# Altium footprint library Connectors-USB - DVI - HDMI.PcbLib: 45 footprints (part 1 of 3)
Each footprint in its own frame and in the unit in brackets; x right, y up, seen from the top. Pads: shape width x height; smd on the part's side, far side on the other; paste and mask are expansions set on the pad; w line width, h text height; cw(c..) or ccw(c..) is an arc to the next point about the centre after c.
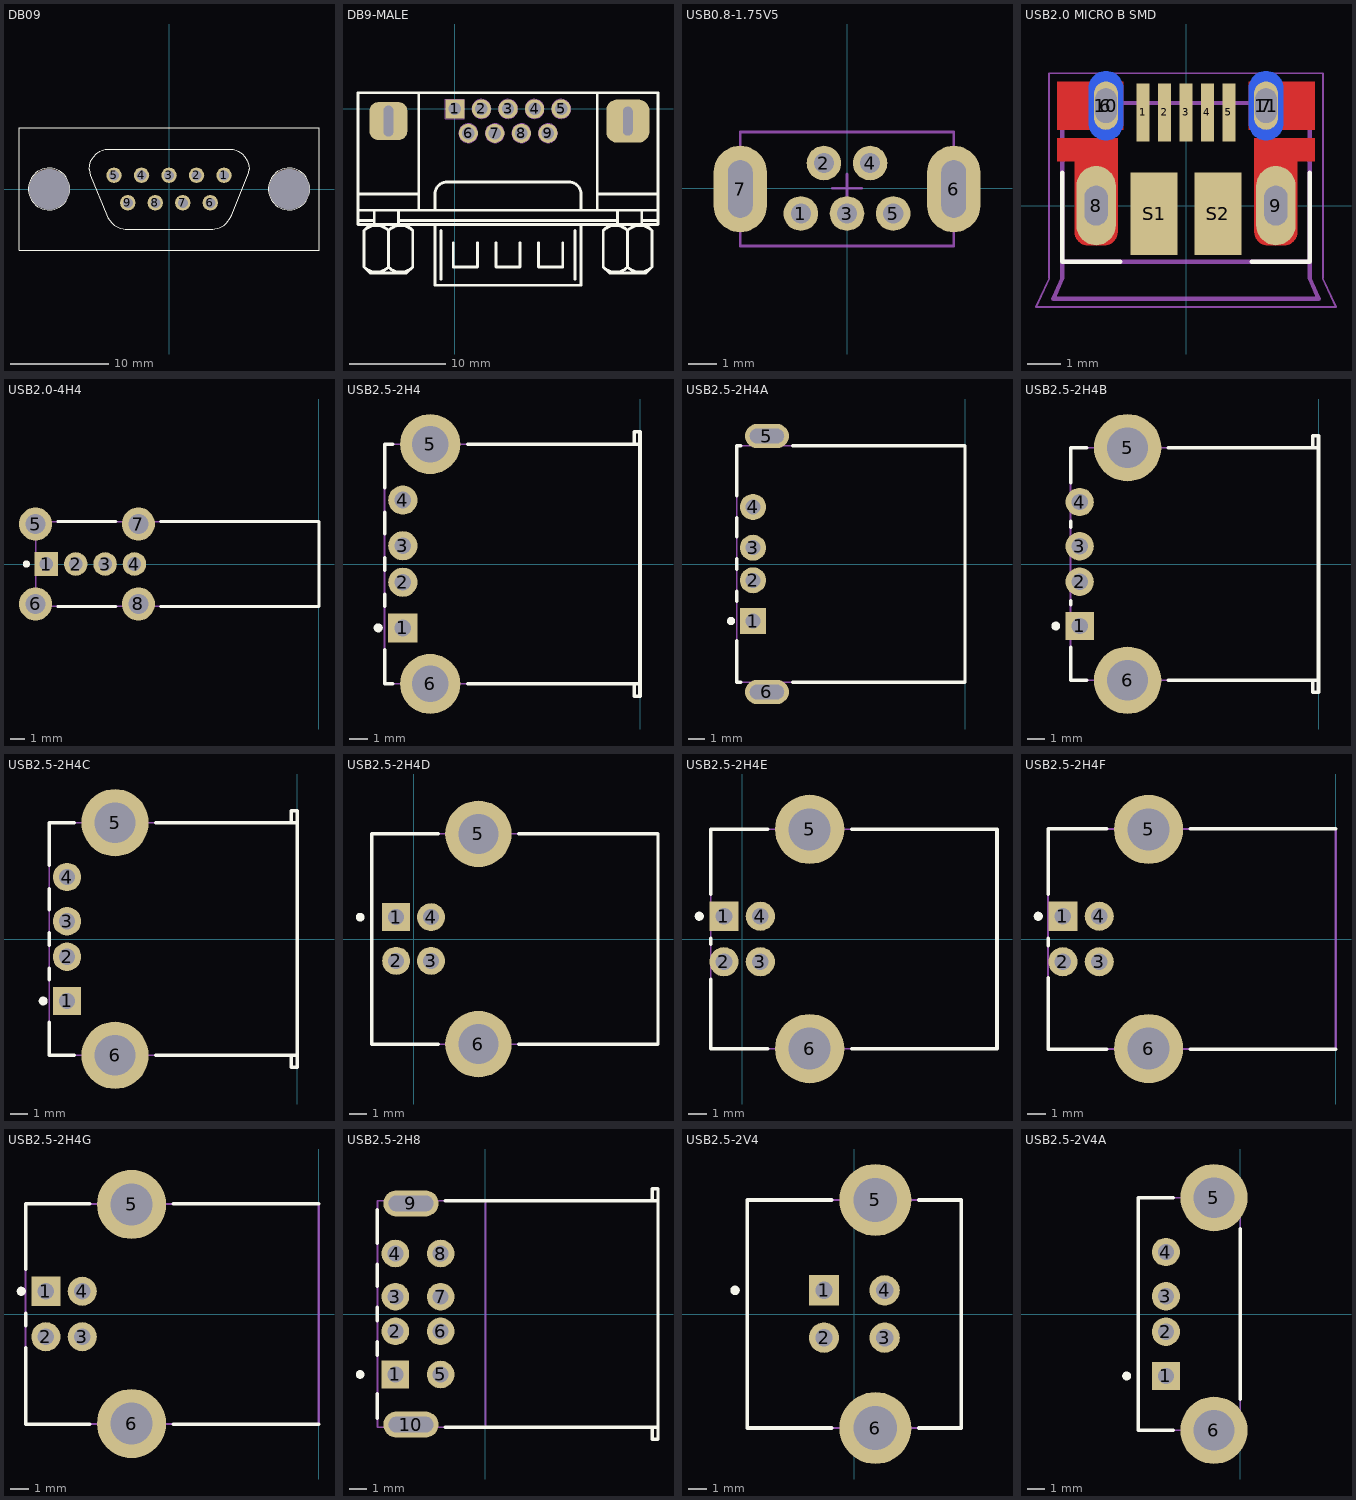
[diagram p0: the footprints below, top view; thin cyan lines are the x and y axes]

## DB09 [mil]
pads (11):
  round 62 hole 40: 1(220,55) 2(110,55) 3(0,55) 4(-110,55) 5(-220,55) 6(165,-55) 7(55,-55) 8(-55,-55) 9(-165,-55)
  round 162 hole 162 unplated: ""(-480,0) ""(480,0)
Top Overlay:
  circle w5: c480,0 r83
  circle w5: c-480,0 r83
  lines w5: -600,-245 -600,245 600,245 600,-245 -600,-245 ; -320,80 -318,96 -313,113 -302,130 -292,141 -277,151 -268,156 -256,159 -245,160 245,160 256,159 268,156 277,151 292,141 302,130 313,113 318,96 320,80 318,66 315,55 250,-105 245,-115 230,-135 220,-145 200,-155 194,-157 183,-159 175,-160 -175,-160 -183,-159 -194,-157 -200,-155 -220,-145 -230,-135 -245,-115 -250,-105 -315,55 -318,66 -320,80
Top HCB:
  text "3" at -17.5,100.25 h59.06
  text "6" at 147.63,-149.99 h59.06
  text "1" at 208.65,100.01 h59.06
  text "2" at 92.66,100.17 h59.06
  text "7" at 37.59,-150.08 h59.06
  text "8" at -72.53,-150 h59.06
  text "4" at -127.8,100.16 h59.06
  text "5" at -237.68,100.21 h59.06
  text "9" at -187.48,-149.88 h59.06

## DB9-MALE [mm]
height 12.55
pads (11):
  rect 2x2 hole 1.3 unplated: 1(0,0)
  round 2 hole 1.3 unplated: 2(2.773,0) 3(5.546,0) 4(8.318,0) 5(11.091,0) 6(1.397,-2.54) 7(4.17,-2.54) 8(6.943,-2.54) 9(9.715,-2.54)
  rrect50% 4x4 hole 1 slot 3.2 at 90 deg unplated: ""(-6.943,-1.27)
  rrect50% 4.5x4.5 hole 1 slot 3 at 90 deg unplated: ""(18.055,-1.27)
Top Overlay:
  lines w0.3: -10.118,-11.642 -8.424,-11.642 ; -10.118,-10.583 21.209,-10.583 ; -10.118,-8.89 -3.768,-8.89 ; -9.485,-16.512 ccw(c-8.213,-15.24) -6.94,-16.512 ; -9.485,-12.698 cw(c-8.213,-13.97) -6.94,-12.698 ; -8.848,-12.065 -9.483,-12.7 -9.483,-16.51 -8.848,-17.145 -5.038,-17.145 -4.403,-16.51 -4.403,-12.7 -5.038,-12.065 ; -8.424,-12.065 -8.424,-10.583 ; -6.945,-16.512 ccw(c-5.673,-15.24) -4.4,-16.512 ; -6.945,-12.698 cw(c-5.673,-13.97) -4.4,-12.698 ; -6.943,-16.51 -6.943,-12.7 ; -5.884,-12.065 -5.884,-10.583 ; -5.884,-11.642 16.976,-11.642 ; -5.334,1.693 15.723,1.693 ; -3.768,-10.583 -3.768,1.693 -10.118,1.693 -10.118,-12.065 21.209,-12.065 21.209,1.693 14.859,1.693 14.859,-10.583 ; -2.074,-12.065 -2.074,-18.415 13.166,-18.415 13.166,-12.065 ; -2.074,-10.583 -2.074,-8.89 cw(c-0.804,-8.89) -0.804,-7.62 11.896,-7.62 cw(c11.896,-8.89) 13.166,-8.89 13.166,-10.583 ; -1.439,-17.78 -1.439,-12.7 ; -0.169,-13.97 -0.169,-16.51 2.371,-16.51 2.371,-13.97 ; 4.276,-13.97 4.276,-16.51 6.816,-16.51 6.816,-13.97 ; 8.721,-13.97 8.721,-16.51 11.261,-16.51 11.261,-13.97 ; 12.531,-17.78 12.531,-12.7 ; 14.859,-8.89 21.209,-8.89 ; 15.492,-16.512 ccw(c16.764,-15.24) 18.036,-16.512 ; 15.492,-12.698 cw(c16.764,-13.97) 18.036,-12.698 ; 16.129,-12.065 15.494,-12.7 15.494,-16.51 16.129,-17.145 19.939,-17.145 20.574,-16.51 20.574,-12.7 19.939,-12.065 ; 16.976,-12.065 16.976,-10.583 ; 18.032,-16.512 ccw(c19.304,-15.24) 20.576,-16.512 ; 18.032,-12.698 cw(c19.304,-13.97) 20.576,-12.698 ; 18.034,-16.51 18.034,-12.7 ; 19.516,-12.065 19.516,-10.583 ; 19.516,-11.642 21.209,-11.642
Top HCB:
  circle w0.05: c6.943,-2.54 r1
  circle w0.05: c11.091,0 r1
  circle w0.05: c8.318,0 r1
  circle w0.05: c5.546,0 r1
  circle w0.05: c2.773,0 r1
  circle w0.05: c9.715,-2.54 r1
  circle w0.05: c1.397,-2.54 r1
  circle w0.05: c4.17,-2.54 r1
  lines w0.05: -10.118,-11.642 -8.424,-11.642 ; -10.118,-10.583 21.209,-10.583 ; -10.118,-8.89 -3.768,-8.89 ; -9.485,-16.512 ccw(c-8.213,-15.24) -6.94,-16.512 ; -9.485,-12.698 cw(c-8.213,-13.97) -6.94,-12.698 ; -8.848,-12.065 -9.483,-12.7 -9.483,-16.51 -8.848,-17.145 -5.038,-17.145 -4.403,-16.51 -4.403,-12.7 -5.038,-12.065 ; -8.424,-12.065 -8.424,-10.583 ; -6.945,-16.512 ccw(c-5.673,-15.24) -4.4,-16.512 ; -6.945,-12.698 cw(c-5.673,-13.97) -4.4,-12.698 ; -6.943,-16.51 -6.943,-12.7 ; -5.884,-12.065 -5.884,-10.583 ; -5.884,-11.642 16.976,-11.642 ; -5.334,1.693 15.723,1.693 ; -3.768,-10.583 -3.768,1.693 -10.118,1.693 -10.118,-12.065 21.209,-12.065 21.209,1.693 14.859,1.693 14.859,-10.583 ; -2.074,-12.065 -2.074,-18.415 13.166,-18.415 13.166,-12.065 ; -2.074,-10.583 -2.074,-8.89 cw(c-0.804,-8.89) -0.804,-7.62 11.896,-7.62 cw(c11.896,-8.89) 13.166,-8.89 13.166,-10.583 ; -1.439,-17.78 -1.439,-12.7 ; -0.169,-13.97 -0.169,-16.51 2.371,-16.51 2.371,-13.97 ; 4.276,-13.97 4.276,-16.51 6.816,-16.51 6.816,-13.97 ; 8.721,-13.97 8.721,-16.51 11.261,-16.51 11.261,-13.97 ; 12.531,-17.78 12.531,-12.7 ; 14.859,-8.89 21.209,-8.89 ; 15.492,-16.512 ccw(c16.764,-15.24) 18.036,-16.512 ; 15.492,-12.698 cw(c16.764,-13.97) 18.036,-12.698 ; 16.129,-12.065 15.494,-12.7 15.494,-16.51 16.129,-17.145 19.939,-17.145 20.574,-16.51 20.574,-12.7 19.939,-12.065 ; 16.976,-12.065 16.976,-10.583 ; 18.032,-16.512 ccw(c19.304,-15.24) 20.576,-16.512 ; 18.032,-12.698 cw(c19.304,-13.97) 20.576,-12.698 ; 18.034,-16.51 18.034,-12.7 ; 19.516,-12.065 19.516,-10.583 ; 19.516,-11.642 21.209,-11.642 ; -6.713,0.23 cw(c-6.713,-1.04) -5.443,-1.04 ; -6.713,0.23 cw(c-6.713,-1.04) -5.443,-1.04 ; -6.713,0.23 -6.943,0.23 -7.173,0.23 ccw(c-7.173,-1.04) -8.443,-1.04 -8.443,-1.5 ccw(c-7.173,-1.5) -7.173,-2.77 -6.713,-2.77 ccw(c-6.713,-1.5) -5.443,-1.5 -5.443,-1.04 ; 18.285,0.23 cw(c18.285,-1.04) 19.555,-1.04 ; 18.285,0.23 cw(c18.285,-1.04) 19.555,-1.04 ; 18.285,0.23 18.055,0.23 17.825,0.23 ccw(c17.825,-1.04) 16.555,-1.04 16.555,-1.5 ccw(c17.825,-1.5) 17.825,-2.77 18.285,-2.77 ccw(c18.285,-1.5) 19.555,-1.5 19.555,-1.04 ; -1,-1 1,-1 1,1 -1,1 -1,-1
  text "6" at -0.798,-3.282 h2
  text "1" at -2.461,-0.691 h2
  text "5" at 12.626,-0.672 h2
  text "9" at 11.179,-3.282 h2
3D body "SW3DPS-DB9RA_copy.STEP": height 12.66, standoff -3.39, extent -10.057,-19.105 21.257,1.6

## USB0.8-1.75V5 [mm] "Connector; USB Mini-B, Type 2, Thru-Hole; 5 Position; Vertical"
height 7.7
pads (7):
  round 1.2 hole 0.7: 1(-1.6,-0.875) 2(-0.8,0.875) 3(0,-0.875) 4(0.8,0.875) 5(1.6,-0.875)
  oval 1.85x3 hole 0.85 slot 2 at 90 deg: 6(3.7,-0.025) 7(-3.7,-0.025)
3D:
  lines w0.1: -3.7,-2.005 3.7,-2.005 3.7,1.955 -3.7,1.955 -3.7,-2.005
Mechanical 15:
  lines w0.1: -0.5,0 0.5,0 ; 0,-0.5 0,0.5
3D body "Mini_USB_Vertical.stp": height 9.3, standoff -2.7, extent -5.093,-1.995 5.103,1.965

## USB2.0 MICRO B SMD [mm] "CONN RCPT USB2.0 MICRO B SMD R/A"
height 2.99
pads (13):
  rect 0.4x1.75 smd mask+0.07: 1(-1.3,2.825) 2(-0.65,2.825) 3(0,2.825) 4(0.65,2.825) 5(1.3,2.825)
  oval 0.73x1.46 hole 0.65 slot 1.05 at 90 deg mask+0: 6(-2.425,3.03) 7(2.425,3.03)
  oval 1.2x2.4 hole 0.7 slot 1.2 at 90 deg: 8(-2.725,0) 9(2.725,0)
  oval 1.05x2.1 smd far side paste-2: 10(-2.425,3.03) 11(2.425,3.03)
  rect 1.425x2.5 smd: S1(-0.962,-0.25) S2(0.962,-0.25)
Top Layer:
  region: -1.9,2.3 -3.9,2.3 -3.9,3.76 -1.9,3.76
  region: 3.9,2.3 1.9,2.3 1.9,3.76 3.9,3.76
  region: -2.075,-0.8 -2.076,-0.821 -2.077,-0.842 -2.08,-0.863 -2.084,-0.883 -2.089,-0.904 -2.095,-0.924 -2.102,-0.943 -2.11,-0.963 -2.119,-0.982 -2.129,-1 -2.14,-1.018 -2.151,-1.035 -2.164,-1.052 -2.178,-1.068 -2.192,-1.083 -2.207,-1.097 -2.223,-1.111 -2.24,-1.124 -2.257,-1.135 -2.275,-1.146 -2.293,-1.156 -2.312,-1.165 -2.332,-1.173 -2.351,-1.18 -2.371,-1.186 -2.392,-1.191 -2.412,-1.195 -2.433,-1.198 -2.454,-1.199 -2.475,-1.2 -2.975,-1.2 -2.996,-1.199 -3.017,-1.198 -3.038,-1.195 -3.058,-1.191 -3.079,-1.186 -3.099,-1.18 -3.118,-1.173 -3.138,-1.165 -3.157,-1.156 -3.175,-1.146 -3.193,-1.135 -3.21,-1.124 -3.227,-1.111 -3.243,-1.097 -3.258,-1.083 -3.272,-1.068 -3.286,-1.052 -3.299,-1.035 -3.31,-1.018 -3.321,-1 -3.331,-0.982 -3.34,-0.963 -3.348,-0.943 -3.355,-0.924 -3.361,-0.904 -3.366,-0.883 -3.37,-0.863 -3.373,-0.842 -3.374,-0.821 -3.375,-0.8 -3.375,1.35 -3.9,1.35 -3.9,2.05 -2.075,2.05
  region: 3.9,1.35 3.375,1.35 3.375,-0.8 3.374,-0.821 3.373,-0.842 3.37,-0.863 3.366,-0.883 3.361,-0.904 3.355,-0.924 3.348,-0.943 3.34,-0.963 3.331,-0.982 3.321,-1 3.31,-1.018 3.299,-1.035 3.286,-1.052 3.272,-1.068 3.258,-1.083 3.243,-1.097 3.227,-1.111 3.21,-1.124 3.193,-1.135 3.175,-1.146 3.157,-1.156 3.138,-1.165 3.118,-1.173 3.099,-1.18 3.079,-1.186 3.058,-1.191 3.038,-1.195 3.017,-1.198 2.996,-1.199 2.975,-1.2 2.475,-1.2 2.454,-1.199 2.433,-1.198 2.412,-1.195 2.392,-1.191 2.371,-1.186 2.351,-1.18 2.332,-1.173 2.312,-1.165 2.293,-1.156 2.275,-1.146 2.257,-1.135 2.24,-1.124 2.223,-1.111 2.207,-1.097 2.192,-1.083 2.178,-1.068 2.164,-1.052 2.151,-1.035 2.14,-1.018 2.129,-1 2.119,-0.982 2.11,-0.963 2.102,-0.943 2.095,-0.924 2.089,-0.904 2.084,-0.883 2.08,-0.863 2.077,-0.842 2.076,-0.821 2.075,-0.8 2.075,2.05 3.9,2.05
Top Overlay:
  lines w0.127: -3.75,1 -3.75,-1.7 -1.995,-1.7 ; 1.995,-1.7 3.75,-1.7 3.75,1
Top Solder:
  region: -1.975,-0.8 -1.976,-0.826 -1.978,-0.852 -1.981,-0.878 -1.986,-0.904 -1.992,-0.929 -1.999,-0.955 -2.008,-0.979 -2.018,-1.003 -2.029,-1.027 -2.042,-1.05 -2.056,-1.072 -2.07,-1.094 -2.086,-1.115 -2.103,-1.135 -2.121,-1.154 -2.14,-1.172 -2.16,-1.189 -2.181,-1.205 -2.203,-1.219 -2.225,-1.233 -2.248,-1.246 -2.272,-1.257 -2.296,-1.267 -2.32,-1.276 -2.346,-1.283 -2.371,-1.289 -2.397,-1.294 -2.423,-1.297 -2.449,-1.299 -2.475,-1.3 -2.975,-1.3 -3.001,-1.299 -3.027,-1.297 -3.053,-1.294 -3.079,-1.289 -3.104,-1.283 -3.13,-1.276 -3.154,-1.267 -3.178,-1.257 -3.202,-1.246 -3.225,-1.233 -3.247,-1.219 -3.269,-1.205 -3.29,-1.189 -3.31,-1.172 -3.329,-1.154 -3.347,-1.135 -3.364,-1.115 -3.38,-1.094 -3.394,-1.072 -3.408,-1.05 -3.421,-1.027 -3.432,-1.003 -3.442,-0.979 -3.451,-0.955 -3.458,-0.929 -3.464,-0.904 -3.469,-0.878 -3.472,-0.852 -3.474,-0.826 -3.475,-0.8 -3.475,1.25 -4,1.25 -4,2.15 -1.975,2.15
  region: -1.8,2.2 -4,2.2 -4,3.86 -1.8,3.86
  region: 4,2.2 1.8,2.2 1.8,3.86 4,3.86
  region: 4,1.25 3.475,1.25 3.475,-0.8 3.474,-0.826 3.472,-0.852 3.469,-0.878 3.464,-0.904 3.458,-0.929 3.451,-0.955 3.442,-0.979 3.432,-1.003 3.421,-1.027 3.408,-1.05 3.394,-1.072 3.38,-1.094 3.364,-1.115 3.347,-1.135 3.329,-1.154 3.31,-1.172 3.29,-1.189 3.269,-1.205 3.247,-1.219 3.225,-1.233 3.202,-1.246 3.178,-1.257 3.154,-1.267 3.13,-1.276 3.104,-1.283 3.079,-1.289 3.053,-1.294 3.027,-1.297 3.001,-1.299 2.975,-1.3 2.475,-1.3 2.449,-1.299 2.423,-1.297 2.397,-1.294 2.371,-1.289 2.346,-1.283 2.32,-1.276 2.296,-1.267 2.272,-1.257 2.248,-1.246 2.225,-1.233 2.203,-1.219 2.181,-1.205 2.16,-1.189 2.14,-1.172 2.121,-1.154 2.103,-1.135 2.086,-1.115 2.07,-1.094 2.056,-1.072 2.042,-1.05 2.029,-1.027 2.018,-1.003 2.008,-0.979 1.999,-0.955 1.992,-0.929 1.986,-0.904 1.981,-0.878 1.978,-0.852 1.976,-0.826 1.975,-0.8 1.975,2.15 4,2.15
Top HCB:
  lines w0: -2.745,-0.6 -2.705,-0.6 ; -2.745,0.6 -2.705,0.6 ; 2.705,-0.6 2.745,-0.6 ; 2.705,0.6 2.745,0.6
  lines w0.05: -4.545,-3.07 4.545,-3.07 4.15,-2.2 4.15,4.01 -4.15,4.01 -4.15,-2.2 -4.545,-3.07
  lines w0.127: 3.75,-1.7 -3.75,-1.7 ; -3.75,-1.7 -3.75,3.11 3.75,3.11 3.75,-2.2 4.02,-2.82 -4.02,-2.82 -3.75,-2.2 -3.75,-1.7
3D body "step_temp.STEP": height 3.13, standoff -0.47, extent -4.02,-2.824 4.02,3.209

## USB2.0-4H4 [mm] "Connector; USB1.1, Type A, Thru-Hole; 4 Position; Right Angle"
height 13.83
pads (8):
  rect 1.6x1.6 hole 0.92: 1(-18.56,0)
  round 1.6 hole 0.92: 2(-16.56,0) 3(-14.56,0) 4(-12.56,0)
  round 2.25 hole 1.35: 5(-19.29,2.72) 6(-19.29,-2.72) 7(-12.29,2.72) 8(-12.29,-2.72)
Top Overlay:
  circle w0.25: c-19.91,0 r0.125
  lines w0.2: -17.78,-2.88 -13.8,-2.88 ; -17.78,2.88 -13.8,2.88 ; -10.78,-2.88 0,-2.88 0,2.88 -10.78,2.88
3D:
  lines w0.1: -19.29,-2.88 0,-2.88 0,2.88 -19.29,2.88 -19.29,-2.88
3D body: height 13.83, standoff 0, extent -19.289,-2.879 -0.001,2.879

## USB2.5-2H4 [mm] "Connector; USB1.1, Series A, Reverse Type, Thru-Hole; 4 Position; Right Angle"
height 6.5
pads (6):
  rect 1.6x1.6 hole 0.92: 1(-13,-3.5)
  round 1.6 hole 0.92: 2(-13,-1) 3(-13,1) 4(-13,3.5)
  round 3.3 hole 2: 5(-11.5,6.57) 6(-11.5,-6.57)
Top Overlay:
  circle w0.25: c-14.35,-3.5 r0.125
  lines w0.2: -14,-4.7 -14,-6.565 -13.55,-6.565 ; -14,-2.3 -14,-1.67 ; -14,-0.33 -14,0.33 ; -14,1.67 -14,2.83 ; -14,4.17 -14,6.565 -13.55,6.565 ; -9.45,-6.565 0,-6.565 ; -9.45,6.565 0,6.565 ; -0.32,-6.565 -0.32,-7.25 0,-7.25 0,7.25 -0.32,7.25 -0.32,6.565
Top HCB:
  lines w0.1: 0,-7.25 0,7.25
  text "PCB Edge" at -0.336,-6.303 h0.25
3D:
  lines w0.1: -14,-6.565 -14,6.565 -0.32,6.565 -0.32,7.25 0,7.25 0,-7.25 -0.32,-7.25 -0.32,-6.565 -14,-6.565
3D body: height 6.5, standoff 0, extent -13.999,-7.249 -0.001,7.249

## USB2.5-2H4A [mm] "Connector; USB1.1, Series A, Reverse Type, Thru-Hole; 4 Position; Right Angle"
height 6.5
pads (6):
  rect 1.6x1.6 hole 0.92: 1(-13,-3.5)
  round 1.6 hole 0.92: 2(-13,-1) 3(-13,1) 4(-13,3.5)
  oval 2.7x1.5 hole 0.9 slot 2.1 at 0 deg: 5(-12.15,7.85) 6(-12.15,-7.85)
Top Overlay:
  circle w0.25: c-14.35,-3.5 r0.125
  lines w0.2: -14,-4.7 -14,-7.25 -13.74,-7.25 ; -14,-2.3 -14,-1.67 ; -14,-0.33 -14,0.33 ; -14,1.67 -14,2.83 ; -14,4.17 -14,7.25 -13.74,7.25 ; -10.56,-7.25 0,-7.25 0,7.25 -10.56,7.25
Top HCB:
  lines w0.1: 0,-7.25 0,7.25
  text "PCB Edge" at -0.324,-6.966 h0.25
3D:
  lines w0.1: -14,-7.25 -14,7.25 0,7.25 0,-7.25 -14,-7.25
3D body: height 6.5, standoff 0, extent -14,-7.25 0,7.25

## USB2.5-2H4B [mm] "Connector; USB1.1, Type A, Thru-Hole; 4 Position; Right Angle"
height 7.01
pads (6):
  rect 1.6x1.6 hole 0.92: 1(-13.49,-3.5)
  round 1.6 hole 0.92: 2(-13.49,-1) 3(-13.49,1) 4(-13.49,3.5)
  round 3.8 hole 2.3: 5(-10.78,6.57) 6(-10.78,-6.57)
Top Overlay:
  circle w0.25: c-14.84,-3.5 r0.125
  lines w0.2: -14,-4.7 -14,-6.565 -13.08,-6.565 ; -14,-2.3 -14,-2.09 ; -14,2.09 -14,2.41 ; -14,4.59 -14,6.565 -13.08,6.565 ; -8.48,-6.565 0,-6.565 ; -8.48,6.565 0,6.565 ; -0.32,-6.565 -0.32,-7.25 0,-7.25 0,-6.565 ; -0.32,6.565 -0.32,7.25 0,7.25 0,6.565 ; 0,-6.565 0,6.565
3D:
  lines w0.1: -14,-6.565 -0.32,-6.565 -0.32,-7.25 0,-7.25 0,7.25 -0.32,7.25 -0.32,6.565 -14,6.565 -14,-6.565
3D body: height 7.01, standoff 0, extent -13.999,-7.249 -0.001,7.249

## USB2.5-2H4C [mm] "Connector; USB1.1, Type A, Thru-Hole; 4 Position; Right Angle"
height 7.01
pads (6):
  rect 1.6x1.6 hole 0.92: 1(-12.99,-3.5)
  round 1.6 hole 0.92: 2(-12.99,-1) 3(-12.99,1) 4(-12.99,3.5)
  round 3.8 hole 2.3: 5(-10.28,6.57) 6(-10.28,-6.57)
Top Overlay:
  circle w0.25: c-14.34,-3.5 r0.125
  lines w0.2: -14,-4.7 -14,-6.565 -12.58,-6.565 ; -14,-2.3 -14,-1.66 ; -14,-0.34 -14,0.34 ; -14,1.66 -14,2.84 ; -14,4.16 -14,6.565 -12.58,6.565 ; -7.98,-6.565 0,-6.565 ; -7.98,6.565 0,6.565 ; -0.32,-6.565 -0.32,-7.25 0,-7.25 0,-6.565 ; -0.32,6.565 -0.32,7.25 0,7.25 0,6.565 ; 0,-6.565 0,6.565
3D:
  lines w0.1: -14,-6.565 -14,6.565 -0.32,6.565 -0.32,7.25 0,7.25 0,-7.25 -0.32,-7.25 -0.32,-6.565 -14,-6.565
3D body: height 7.01, standoff 0, extent -13.999,-7.249 -0.001,7.249

## USB2.5-2H4D [mm] "Connector; USB1.1, Type B, Thru-Hole; 4 Position; Right Angle"
height 11.1
pads (6):
  rect 1.6x1.6 hole 0.92: 1(-1,1.25)
  round 1.6 hole 0.92: 2(-1,-1.25) 3(1,-1.25) 4(1,1.25)
  round 3.8 hole 2.3: 5(3.71,6.02) 6(3.71,-6.02)
Top Overlay:
  circle w0.25: c-3.06,1.25 r0.125
  lines w0.2: 1.41,-6.02 -2.41,-6.02 -2.41,6.02 1.41,6.02 ; 6.01,-6.02 13.99,-6.02 13.99,6.02 6.01,6.02
3D:
  lines w0.1: -2.41,-6.02 13.99,-6.02 13.99,6.02 -2.41,6.02 -2.41,-6.02
3D body: height 11.1, standoff 0, extent -2.41,-6.02 13.99,6.02

## USB2.5-2H4E [mm] "Connector; USB1.1, Type B, Thru-Hole; 4 Position; Right Angle"
height 11.5
pads (6):
  rect 1.6x1.6 hole 0.92: 1(-1,1.25)
  round 1.6 hole 0.92: 2(-1,-1.25) 3(1,-1.25) 4(1,1.25)
  round 3.8 hole 2.3: 5(3.71,6.02) 6(3.71,-6.02)
Top Overlay:
  circle w0.25: c-2.35,1.25 r0.125
  lines w0.2: -1.72,-2.21 -1.72,-6.02 1.41,-6.02 ; -1.72,-0.29 -1.72,0.05 ; -1.72,2.45 -1.72,6.02 1.41,6.02 ; 6.01,-6.02 13.99,-6.02 13.99,6.02 6.01,6.02
3D:
  lines w0.1: -1.72,-6.02 13.99,-6.02 13.99,6.02 -1.72,6.02 -1.72,-6.02
3D body: height 11.5, standoff 0, extent -1.72,-6.02 13.99,6.02

## USB2.5-2H4F [mm] "Connector; USB1.1, Type B, Thru-Hole; 4 Position; Right Angle"
height 10.95
pads (6):
  rect 1.6x1.6 hole 0.92: 1(-15.01,1.25)
  round 1.6 hole 0.92: 2(-15.01,-1.25) 3(-13.01,-1.25) 4(-13.01,1.25)
  round 3.8 hole 2.3: 5(-10.3,6.02) 6(-10.3,-6.02)
Top Overlay:
  circle w0.25: c-16.36,1.25 r0.125
  lines w0.2: -15.82,-2.14 -15.82,-6.05 -12.6,-6.05 ; -15.82,-0.36 -15.82,0.05 ; -15.82,2.45 -15.82,6.05 -12.6,6.05 ; -8,-6.05 -0.02,-6.05 ; -8,6.05 -0.02,6.05
Top HCB:
  lines w0.1: 0,-6.05 0,6.05
  text "PCB Edge" at -0.325,-5.651 h0.25
3D:
  lines w0.1: -15.82,-6.05 -0.02,-6.05 -0.02,6.05 -15.82,6.05 -15.82,-6.05
3D body: height 10.95, standoff 0, extent -15.82,-6.05 -0.02,6.05

## USB2.5-2H4G [mm] "Connector; USB1.1, Type B, Thru-Hole; 4 Position; Right Angle"
height 10.95
pads (6):
  rect 1.6x1.6 hole 0.92: 1(-15.01,1.25)
  round 1.6 hole 0.92: 2(-15.01,-1.25) 3(-13.01,-1.25) 4(-13.01,1.25)
  round 3.8 hole 2.3: 5(-10.3,6.02) 6(-10.3,-6.02)
Top Overlay:
  circle w0.25: c-16.36,1.25 r0.125
  lines w0.2: -16.12,-1.85 -16.12,-6.05 -12.6,-6.05 ; -16.12,-0.65 -16.12,0.05 ; -16.12,2.45 -16.12,6.05 -12.6,6.05 ; -8,-6.05 -0.02,-6.05 ; -8,6.05 -0.02,6.05
Top HCB:
  lines w0.1: 0,-6.05 0,6.05
  text "PCB Edge" at -0.325,-5.651 h0.25
3D:
  lines w0.1: -16.12,-6.05 -16.12,6.05 -0.02,6.05 -0.02,-6.05 -16.12,-6.05
3D body: height 10.95, standoff 0, extent -16.12,-6.05 -0.02,6.05

## USB2.5-2H8 [mm] "Connector; USB1.1, Type A, Thru-Hole; 4x4 Position; Right Angle"
height 15.51
pads (10):
  rect 1.6x1.6 hole 0.92: 1(-5.21,-3.5)
  round 1.6 hole 0.92: 2(-5.21,-1) 3(-5.21,1) 4(-5.21,3.5) 5(-2.59,-3.5) 6(-2.59,-1) 7(-2.59,1) 8(-2.59,3.5)
  oval 3.2x1.5 hole 0.9 slot 2.6 at 0 deg: 9(-4.31,6.4) 10(-4.31,-6.4)
Top Overlay:
  circle w0.25: c-7.25,-3.5 r0.125
  lines w0.2: -6.25,-6.03 -6.25,-4.62 ; -6.25,-2.38 -6.25,-1.61 ; -6.25,-0.4 -6.25,0.4 ; -6.25,1.61 -6.25,2.88 ; -6.25,4.1 -6.25,6.03 ; -2.32,-6.55 9.99,-6.55 ; -2.32,6.55 9.99,6.55 ; 9.67,-6.55 9.67,-7.25 9.99,-7.25 9.99,-6.55 ; 9.67,6.55 9.67,7.25 9.99,7.25 9.99,6.55 ; 9.99,-6.55 9.99,6.55
Top HCB:
  lines w0.1: 0,-6.55 0,6.55
  text "PCB Edge" at 0.347,-6.248 h0.2
3D:
  lines w0.1: -6.25,-6.55 9.67,-6.55 9.67,-7.25 9.99,-7.25 9.99,7.25 9.67,7.25 9.67,6.55 -6.25,6.55 -6.25,-6.55
3D body: height 15.51, standoff 0, extent -6.249,-7.249 9.989,7.249

## USB2.5-2V4 [mm] "Connector; USB1.1, Type B, Thru-Hole; 4 Position; Vertical"
height 16
pads (6):
  rect 1.6x1.6 hole 0.92: 1(-1.6,1.25)
  round 1.6 hole 0.92: 2(-1.6,-1.25) 3(1.6,-1.25) 4(1.6,1.25)
  round 3.8 hole 2.3: 5(1.11,6.02) 6(1.11,-6.02)
Top Overlay:
  circle w0.25: c-6.3,1.25 r0.125
  lines w0.2: -1.19,-6.02 -5.65,-6.02 -5.65,6.02 -1.19,6.02 ; 3.41,-6.02 5.65,-6.02 5.65,6.02 3.41,6.02
3D:
  lines w0.1: -5.65,-6.02 -5.65,6.02 5.65,6.02 5.65,-6.02 -5.65,-6.02
3D body: height 16, standoff 0, extent -5.65,-6.02 5.65,6.02

## USB2.5-2V4A [mm] "Connector; USB1.1, Type A, Thru-Hole; 4 Position; Vertical"
height 15
pads (6):
  rect 1.6x1.6 hole 0.92: 1(-4.19,-3.5)
  round 1.6 hole 0.92: 2(-4.19,-1) 3(-4.19,1) 4(-4.19,3.5)
  round 3.8 hole 2.3: 5(-1.48,6.57) 6(-1.48,-6.57)
Top Overlay:
  circle w0.25: c-6.41,-3.5 r0.125
  lines w0.2: -3.78,-6.57 -5.76,-6.57 -5.76,6.57 -3.78,6.57 ; 0,-4.81 0,4.81
3D:
  lines w0.1: -5.76,-6.57 0,-6.57 0,6.57 -5.76,6.57 -5.76,-6.57
3D body: height 15, standoff 0, extent -5.76,-6.57 0,6.57